# Altium integrated library Linear Technology Power Management LDO Linear Regulators.IntLib: 2339 symbols (part 130 of 131)
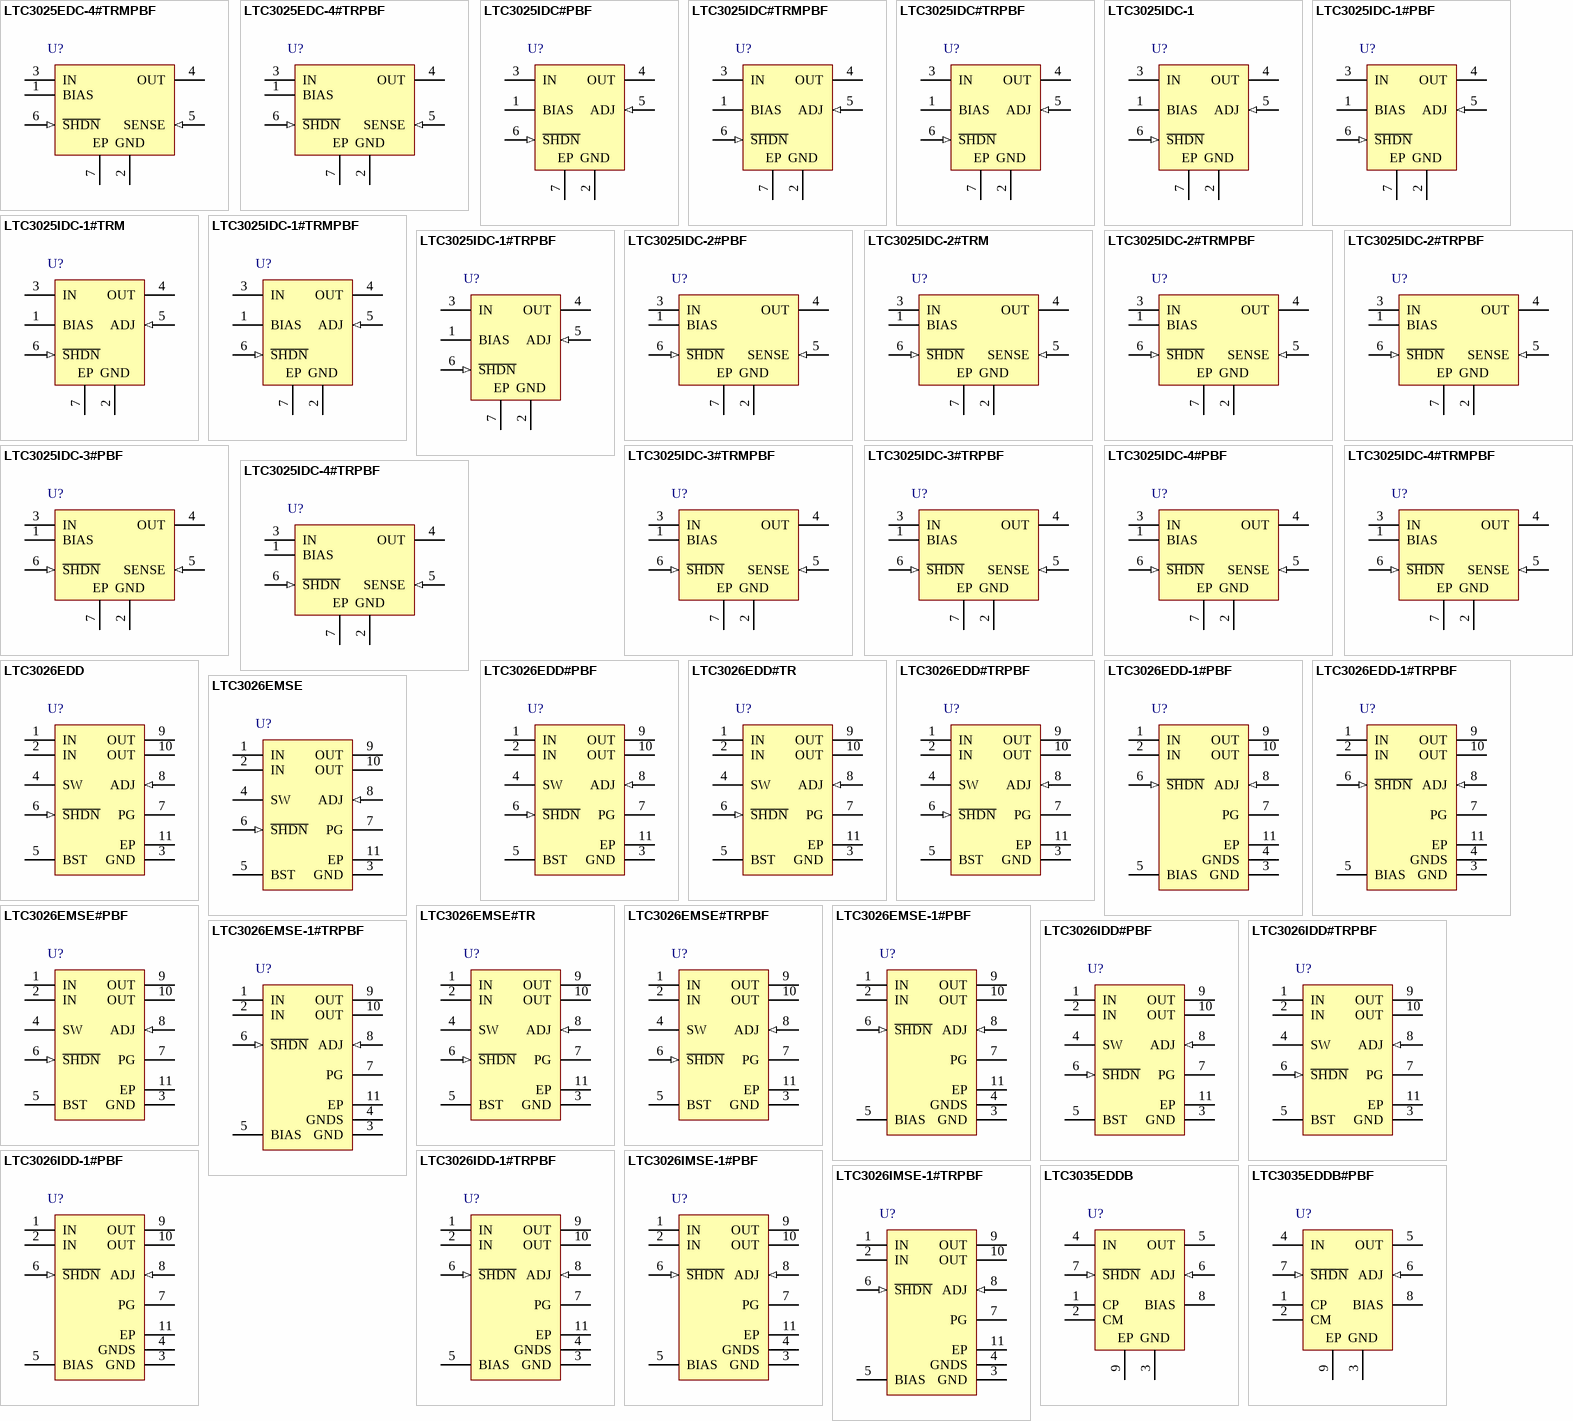
[diagram p198: symbols LTC3025EDC-4#TRMPBF to LTC3035EDDB#PBF]

## LTC3026EMSE#TRPBF
designator U?
100 mV Dropout Voltage, Internal Boost Converter (or External 5 V Supply) Provides Bias Voltage for Internal N-FET Pass Element, 1.14 to 5.5 V Vin, Adjustable Vout, 10-pin SOP (MSE-10-EDP), -40 to 125 degC, Pb-Free, Tape and Reel; Manufacturer: Linear Technology; PartNumber: LTC3026EMSE#TRPBF; Discrete Pass Element: no; Dropout Voltage(V): 0.1; Iout(mA): 1500; Isupply(mA): 0.4; Noise(uV): 110; Number of Outputs: 1; Output Voltage: Adj; PSRR(dB): 42; Shutdown Current(uA): 0.6; Vin Max(V): 5.5; Vin Min(V): 1.14; Vout Max(V): 2.6; DatasheetVersion: Rev. F; PackageVersion: Rev. I, 05/2013; PackageReference: MSE-10; PackageDescription: 10-Pin Plastic MSOP, Exposed Die Pad, Body 3 x 3 mm, Pitch 0.5 mm; Supplier 1: Digi-Key; Supplier Part Number 1: LTC3026EMSE#TRPBFTR-ND; Supplier 2: Digi-Key; Supplier Part Number 2: LTC3026EMSE#TRPBFCT-ND; Supplier 3: Digi-Key; Supplier Part Number 3: LTC3026EMSE#TRPBFDKR-ND; Supplier 4: Newark; Supplier Part Number 4: 56M7312; Packing: Tape and Reel; RoHS: TRUE; Vout Min(V): 0.4; Mounting Technology: Surface Mount; ComponentLink1Description: Manufacturer URL; ComponentLink1URL: http://www.linear.com/; ComponentLink2Description: Datasheet; ComponentLink2URL: http://cds.linear.com/docs/en/datasheet/3026ff.pdf; ComponentLink3Description: Package Specification; ComponentLink3URL: http://cds.linear.com/docs/en/packaging/05081664_I_MSE.pdf
footprint LT-MSE-10-EDP_N (SOP, 10-Leads, Body 3x3mm, Pitch 0.5mm, Thermal Pad 1.88x1.68mm, IPC Medium Density)
footprint LT-MSE-10-EDP_L (SOP, 10-Leads, Body 3x3mm, Pitch 0.5mm, Thermal Pad 1.88x1.68mm, IPC High Density)
footprint LT-MSE-10-EDP_M (SOP, 10-Leads, Body 3x3mm, Pitch 0.5mm, Thermal Pad 1.88x1.68mm, IPC Low Density)
pins: 1 IN (power) "Input Supply Voltage. Output load current is supplied directly from IN. The IN pin should be locally bypassed to ground if the LTC3026 is more than a few inches away from another source of bulk capacitance. In general, the (See Datasheet)", 2 IN (power) "Input Supply Voltage. Output load current is supplied directly from IN. The IN pin should be locally bypassed to ground if the LTC3026 is more than a few inches away from another source of bulk capacitance. In general, the (See Datasheet)", 3 GND (power) "Ground and Heat Sink. Connect the exposed pad to the PCB ground plane or large pad for optimum thermal performance.", 4 SW "Boost Switching Pin. This is the boost converter switching pin. A 4.7uH to 40uH inductor able to handle a peak current of 150mA is connected from this pin to VIN. The boost converter can be disabled by floating this pin. (See Datasheet)", 5 BST (power) "Boost Output Voltage Pin. With boost converter enabled bypass the BST pin with a >=4.7uF low ESR ceramic capacitor to GND (CBST). BST does not load VIN when in shutdown, but is diode connected to IN through the external (See Datasheet)", 6 ~{SHDN} (in) "Shutdown Input Pin, Active Low. This pin is used to put the LTC3026 into shutdown. The S\H\D\N\ pin current is typically less than 10nA. The S\H\D\N\ pin cannot be left floating and must be tied to a valid logic level (such (See Datasheet)", 7 PG (hiz) "Power Good Pin. When PG is high impedance OUT is in regulation, and low impedance when OUT is in shutdown or out of regulation.", 8 ADJ (in) "Output Adjust Pin. This is the input to the error amplifier. It has a typical bias current of 0.1nA flowing into the pin. The ADJ pin reference voltage is 0.4V referenced to ground. The output voltage range is 0.4V to 2.6V (See Datasheet)", 9 OUT (power) "Regulated Output Voltage. The OUT pins supply power to the load. A minimum output capacitance of 5uF is required to ensure stability. Larger output capacitors may be required for applications with large transient loads to (See Datasheet)", 10 OUT (power) "Regulated Output Voltage. The OUT pins supply power to the load. A minimum output capacitance of 5uF is required to ensure stability. Larger output capacitors may be required for applications with large transient loads to (See Datasheet)", 11 EP (power) "Ground and Heat Sink. Connect the exposed pad to the PCB ground plane or large pad for optimum thermal performance."

## LTC3026EMSE-1#PBF
designator U?
1.5 A Low Input Voltage VLDO Linear Regulator, Boost Converter Disabled, Require 5 V External Supply, 1.14 to 5.5 V Vin, Adjustable Vout, 10-pin SOP (MSE-10-EDP), -40 to 125 degC, Pb-Free; Manufacturer: Linear Technology; PartNumber: LTC3026EMSE-1#PBF; Discrete Pass Element: no; Dropout Voltage(V): 0.1; Iout(mA): 1500; Isupply(mA): 0.095; Noise(uV): 110; Number of Outputs: 1; Output Voltage: Adj; PSRR(dB): 42; Shutdown Current(uA): 0.6; Vin Max(V): 5.5; Vin Min(V): 1.14; Vout Max(V): 2.6; Vout Min(V): 0.4; PackageVersion: Rev. I, 05/2013; PackageReference: MSE-10; PackageDescription: 10-Pin Plastic MSOP, Exposed Die Pad, Body 3 x 3 mm, Pitch 0.5 mm; Supplier 1: Digi-Key; Supplier Part Number 1: LTC3026EMSE-1#PBF-ND; Supplier 2: Newark; Supplier Part Number 2: 27W9445; RoHS: TRUE; Mounting Technology: Surface Mount; ComponentLink1Description: Manufacturer URL; ComponentLink1URL: http://www.linear.com/; ComponentLink2Description: Datasheet; ComponentLink2URL: http://cds.linear.com/docs/en/datasheet/30261f.pdf; ComponentLink3Description: Package Specification; ComponentLink3URL: http://cds.linear.com/docs/en/packaging/05081664_I_MSE.pdf
footprint LT-MSE-10-EDP_N (SOP, 10-Leads, Body 3x3mm, Pitch 0.5mm, Thermal Pad 1.88x1.68mm, IPC Medium Density)
footprint LT-MSE-10-EDP_L (SOP, 10-Leads, Body 3x3mm, Pitch 0.5mm, Thermal Pad 1.88x1.68mm, IPC High Density)
footprint LT-MSE-10-EDP_M (SOP, 10-Leads, Body 3x3mm, Pitch 0.5mm, Thermal Pad 1.88x1.68mm, IPC Low Density)
pins: 1 IN (power) "Input Supply Voltage. Output load current is supplied directly from IN. The IN pin should be locally bypassed to ground if the LTC3026 is more than a few inches away from another source of bulk capacitance. In general, the (See Datasheet)", 2 IN (power) "Input Supply Voltage. Output load current is supplied directly from IN. The IN pin should be locally bypassed to ground if the LTC3026 is more than a few inches away from another source of bulk capacitance. In general, the (See Datasheet)", 3 GND (power) "Ground and Heat Sink. Connect the exposed pad to the PCB ground plane or large pad for optimum thermal performance.", 4 GNDS (power) "Ground Sense Pin. Tie directly to Pin 3 GND external to the part.", 5 BIAS (power) "BIAS Voltage Pin. Must be connected to an external 5V supply. A 1uF low ESR ceramic capacitor is recommended for bypassing the BIAS pin.", 6 ~{SHDN} (in) "Shutdown Input Pin, Active Low. This pin is used to put the LTC3026 into shutdown. The S\H\D\N\ pin current is typically less than 10nA. The S\H\D\N\ pin cannot be left floating and must be tied to a valid logic level (such (See Datasheet)", 7 PG (hiz) "Power Good Pin. When PG is high impedance OUT is in regulation, and low impedance when OUT is in shutdown or out of regulation.", 8 ADJ (in) "Output Adjust Pin. This is the input to the error amplifier. It has a typical bias current of 0.1nA flowing into the pin. The ADJ pin reference voltage is 0.4V referenced to ground. The output voltage range is 0.4V to 2.6V (See Datasheet)", 9 OUT (power) "Regulated Output Voltage. The OUT pins supply power to the load. A minimum output capacitance of 5uF is required to ensure stability. Larger output capacitors may be required for applications with large transient loads to (See Datasheet)", 10 OUT (power) "Regulated Output Voltage. The OUT pins supply power to the load. A minimum output capacitance of 5uF is required to ensure stability. Larger output capacitors may be required for applications with large transient loads to (See Datasheet)", 11 EP (power) "Ground and Heat Sink. Connect the exposed pad to the PCB ground plane or large pad for optimum thermal performance."

## LTC3026EMSE-1#TRPBF
designator U?
1.5 A Low Input Voltage VLDO Linear Regulator, Boost Converter Disabled, Require 5 V External Supply, 1.14 to 5.5 V Vin, Adjustable Vout, 10-pin SOP (MSE-10-EDP), -40 to 125 degC, Pb-Free, Tape and Reel; Manufacturer: Linear Technology; PartNumber: LTC3026EMSE-1#TRPBF; Discrete Pass Element: no; Dropout Voltage(V): 0.1; Iout(mA): 1500; Isupply(mA): 0.095; Noise(uV): 110; Number of Outputs: 1; Output Voltage: Adj; PSRR(dB): 42; Shutdown Current(uA): 0.6; Vin Max(V): 5.5; Vin Min(V): 1.14; Vout Max(V): 2.6; Vout Min(V): 0.4; PackageVersion: Rev. I, 05/2013; PackageReference: MSE-10; PackageDescription: 10-Pin Plastic MSOP, Exposed Die Pad, Body 3 x 3 mm, Pitch 0.5 mm; Supplier 1: Digi-Key; Supplier Part Number 1: LTC3026EMSE-1#TRPBF-ND; Supplier 2: Newark; Supplier Part Number 2: 27W9446; Packing: Tape and Reel; RoHS: TRUE; Mounting Technology: Surface Mount; ComponentLink1Description: Manufacturer URL; ComponentLink1URL: http://www.linear.com/; ComponentLink2Description: Datasheet; ComponentLink2URL: http://cds.linear.com/docs/en/datasheet/30261f.pdf; ComponentLink3Description: Package Specification; ComponentLink3URL: http://cds.linear.com/docs/en/packaging/05081664_I_MSE.pdf
footprint LT-MSE-10-EDP_N (SOP, 10-Leads, Body 3x3mm, Pitch 0.5mm, Thermal Pad 1.88x1.68mm, IPC Medium Density)
footprint LT-MSE-10-EDP_L (SOP, 10-Leads, Body 3x3mm, Pitch 0.5mm, Thermal Pad 1.88x1.68mm, IPC High Density)
footprint LT-MSE-10-EDP_M (SOP, 10-Leads, Body 3x3mm, Pitch 0.5mm, Thermal Pad 1.88x1.68mm, IPC Low Density)
pins: 1 IN (power) "Input Supply Voltage. Output load current is supplied directly from IN. The IN pin should be locally bypassed to ground if the LTC3026 is more than a few inches away from another source of bulk capacitance. In general, the (See Datasheet)", 2 IN (power) "Input Supply Voltage. Output load current is supplied directly from IN. The IN pin should be locally bypassed to ground if the LTC3026 is more than a few inches away from another source of bulk capacitance. In general, the (See Datasheet)", 3 GND (power) "Ground and Heat Sink. Connect the exposed pad to the PCB ground plane or large pad for optimum thermal performance.", 4 GNDS (power) "Ground Sense Pin. Tie directly to Pin 3 GND external to the part.", 5 BIAS (power) "BIAS Voltage Pin. Must be connected to an external 5V supply. A 1uF low ESR ceramic capacitor is recommended for bypassing the BIAS pin.", 6 ~{SHDN} (in) "Shutdown Input Pin, Active Low. This pin is used to put the LTC3026 into shutdown. The S\H\D\N\ pin current is typically less than 10nA. The S\H\D\N\ pin cannot be left floating and must be tied to a valid logic level (such (See Datasheet)", 7 PG (hiz) "Power Good Pin. When PG is high impedance OUT is in regulation, and low impedance when OUT is in shutdown or out of regulation.", 8 ADJ (in) "Output Adjust Pin. This is the input to the error amplifier. It has a typical bias current of 0.1nA flowing into the pin. The ADJ pin reference voltage is 0.4V referenced to ground. The output voltage range is 0.4V to 2.6V (See Datasheet)", 9 OUT (power) "Regulated Output Voltage. The OUT pins supply power to the load. A minimum output capacitance of 5uF is required to ensure stability. Larger output capacitors may be required for applications with large transient loads to (See Datasheet)", 10 OUT (power) "Regulated Output Voltage. The OUT pins supply power to the load. A minimum output capacitance of 5uF is required to ensure stability. Larger output capacitors may be required for applications with large transient loads to (See Datasheet)", 11 EP (power) "Ground and Heat Sink. Connect the exposed pad to the PCB ground plane or large pad for optimum thermal performance."

## LTC3026IDD#PBF
designator U?
Operates with VIN = 1.14 V, 100 mV Dropout Voltage, Internal Boost Converter (or External 5 V Supply) Provides Bias Voltage for Internal N-FET Pass Element, 1.14 to 5.5 V Vin, Adjustable Vout, 10-pin SON (DD-10), -40 to 125 degC, Pb-Free; Manufacturer: Linear Technology; PartNumber: LTC3026IDD#PBF; Discrete Pass Element: no; Dropout Voltage(V): 0.1; Iout(mA): 1500; Isupply(mA): 0.4; Noise(uV): 110; Number of Outputs: 1; Output Voltage: Adj; PSRR(dB): 42; Shutdown Current(uA): 0.6; Vin Max(V): 5.5; Vin Min(V): 1.14; Vout Max(V): 2.6; DatasheetVersion: Rev. F; PackageVersion: Rev. C, 06/2010; PackageReference: DD-10; PackageDescription: 10-Pin Plastic DFN, Body 3 x 3 mm, Pitch 0.5 mm; Supplier 1: Digi-Key; Supplier Part Number 1: LTC3026IDD#PBF-ND; Supplier 2: Farnell; Supplier Part Number 2: 2215128; Supplier 3: Newark; Supplier Part Number 3: 44W6803; RoHS: TRUE; Vout Min(V): 0.4; Mounting Technology: Surface Mount; Code_JEDEC: MO-229; ComponentLink1Description: Manufacturer URL; ComponentLink1URL: http://www.linear.com/; ComponentLink2Description: Datasheet; ComponentLink2URL: http://cds.linear.com/docs/en/datasheet/3026ff.pdf; ComponentLink3Description: Package Specification; ComponentLink3URL: http://cds.linear.com/docs/en/packaging/DFN_10_05-08-1699.pdf
footprint LT-DD-10_V (SON, 10-Leads, Body 3x3mm, Pitch 0.5mm, Thermal Pad 2.38x1.65mm)
pins: 1 IN (power) "Input Supply Voltage. Output load current is supplied directly from IN. The IN pin should be locally bypassed to ground if the LTC3026 is more than a few inches away from another source of bulk capacitance. In general, the (See Datasheet)", 2 IN (power) "Input Supply Voltage. Output load current is supplied directly from IN. The IN pin should be locally bypassed to ground if the LTC3026 is more than a few inches away from another source of bulk capacitance. In general, the (See Datasheet)", 3 GND (power) "Ground and Heat Sink. Connect the exposed pad to the PCB ground plane or large pad for optimum thermal performance.", 4 SW "Boost Switching Pin. This is the boost converter switching pin. A 4.7uH to 40uH inductor able to handle a peak current of 150mA is connected from this pin to VIN. The boost converter can be disabled by floating this pin. (See Datasheet)", 5 BST "Boost Output Voltage Pin. With boost converter enabled bypass the BST pin with a >=4.7uF low ESR ceramic capacitor to GND (CBST). BST does not load VIN when in shutdown, but is diode connected to IN through the external (See Datasheet)", 6 ~{SHDN} (in) "Shutdown Input Pin, Active Low. This pin is used to put the LTC3026 into shutdown. The S\H\D\N\ pin current is typically less than 10nA. The S\H\D\N\ pin cannot be left floating and must be tied to a valid logic level (such (See Datasheet)", 7 PG (hiz) "Power Good Pin. When PG is high impedance OUT is in regulation, and low impedance when OUT is in shutdown or out of regulation.", 8 ADJ (in) "Output Adjust Pin. This is the input to the error amplifier. It has a typical bias current of 0.1nA flowing into the pin. The ADJ pin reference voltage is 0.4V referenced to ground. The output voltage range is 0.4V to 2.6V (See Datasheet)", 9 OUT (power) "Regulated Output Voltage. The OUT pins supply power to the load. A minimum output capacitance of 5uF is required to ensure stability. Larger output capacitors may be required for applications with large transient loads to (See Datasheet)", 10 OUT (power) "Regulated Output Voltage. The OUT pins supply power to the load. A minimum output capacitance of 5uF is required to ensure stability. Larger output capacitors may be required for applications with large transient loads to (See Datasheet)", 11 EP (power) "Ground and Heat Sink. Connect the exposed pad to the PCB ground plane or large pad for optimum thermal performance."

## LTC3026IDD#TRPBF
designator U?
Operates with VIN = 1.14 V, 100 mV Dropout Voltage, Internal Boost Converter (or External 5 V Supply) Provides Bias Voltage for Internal N-FET Pass Element, 1.14 to 5.5 V Vin, Adjustable Vout, 10-pin SON (DD-10), -40 to 125 degC, Pb-Free, Tape and Reel; Manufacturer: Linear Technology; PartNumber: LTC3026IDD#TRPBF; Discrete Pass Element: no; Dropout Voltage(V): 0.1; Iout(mA): 1500; Isupply(mA): 0.4; Noise(uV): 110; Number of Outputs: 1; Output Voltage: Adj; PSRR(dB): 42; Shutdown Current(uA): 0.6; Vin Max(V): 5.5; Vin Min(V): 1.14; Vout Max(V): 2.6; DatasheetVersion: Rev. F; PackageVersion: Rev. C, 06/2010; PackageReference: DD-10; PackageDescription: 10-Pin Plastic DFN, Body 3 x 3 mm, Pitch 0.5 mm; Supplier 1: Digi-Key; Supplier Part Number 1: LTC3026IDD#TRPBF-ND; Supplier 2: Newark; Supplier Part Number 2: 44W6804; Packing: Tape and Reel; RoHS: TRUE; Vout Min(V): 0.4; Mounting Technology: Surface Mount; Code_JEDEC: MO-229; ComponentLink1Description: Manufacturer URL; ComponentLink1URL: http://www.linear.com/; ComponentLink2Description: Datasheet; ComponentLink2URL: http://cds.linear.com/docs/en/datasheet/3026ff.pdf; ComponentLink3Description: Package Specification; ComponentLink3URL: http://cds.linear.com/docs/en/packaging/DFN_10_05-08-1699.pdf
footprint LT-DD-10_V (SON, 10-Leads, Body 3x3mm, Pitch 0.5mm, Thermal Pad 2.38x1.65mm)
pins: 1 IN (power) "Input Supply Voltage. Output load current is supplied directly from IN. The IN pin should be locally bypassed to ground if the LTC3026 is more than a few inches away from another source of bulk capacitance. In general, the (See Datasheet)", 2 IN (power) "Input Supply Voltage. Output load current is supplied directly from IN. The IN pin should be locally bypassed to ground if the LTC3026 is more than a few inches away from another source of bulk capacitance. In general, the (See Datasheet)", 3 GND (power) "Ground and Heat Sink. Connect the exposed pad to the PCB ground plane or large pad for optimum thermal performance.", 4 SW "Boost Switching Pin. This is the boost converter switching pin. A 4.7uH to 40uH inductor able to handle a peak current of 150mA is connected from this pin to VIN. The boost converter can be disabled by floating this pin. (See Datasheet)", 5 BST "Boost Output Voltage Pin. With boost converter enabled bypass the BST pin with a >=4.7uF low ESR ceramic capacitor to GND (CBST). BST does not load VIN when in shutdown, but is diode connected to IN through the external (See Datasheet)", 6 ~{SHDN} (in) "Shutdown Input Pin, Active Low. This pin is used to put the LTC3026 into shutdown. The S\H\D\N\ pin current is typically less than 10nA. The S\H\D\N\ pin cannot be left floating and must be tied to a valid logic level (such (See Datasheet)", 7 PG (hiz) "Power Good Pin. When PG is high impedance OUT is in regulation, and low impedance when OUT is in shutdown or out of regulation.", 8 ADJ (in) "Output Adjust Pin. This is the input to the error amplifier. It has a typical bias current of 0.1nA flowing into the pin. The ADJ pin reference voltage is 0.4V referenced to ground. The output voltage range is 0.4V to 2.6V (See Datasheet)", 9 OUT (power) "Regulated Output Voltage. The OUT pins supply power to the load. A minimum output capacitance of 5uF is required to ensure stability. Larger output capacitors may be required for applications with large transient loads to (See Datasheet)", 10 OUT (power) "Regulated Output Voltage. The OUT pins supply power to the load. A minimum output capacitance of 5uF is required to ensure stability. Larger output capacitors may be required for applications with large transient loads to (See Datasheet)", 11 EP (power) "Ground and Heat Sink. Connect the exposed pad to the PCB ground plane or large pad for optimum thermal performance."

## LTC3026IDD-1#PBF
designator U?
1.5 A Low Input Voltage VLDO Linear Regulator, Boost Converter Disabled, Require 5 V External Supply, 1.14 to 5.5 V Vin, Adjustable Vout, 10-pin SON (DD-10), -40 to 125 degC, Pb-Free; Manufacturer: Linear Technology; PartNumber: LTC3026IDD-1#PBF; Discrete Pass Element: no; Dropout Voltage(V): 0.1; Iout(mA): 1500; Isupply(mA): 0.095; Noise(uV): 110; Number of Outputs: 1; Output Voltage: Adj; PSRR(dB): 42; Shutdown Current(uA): 0.6; Vin Max(V): 5.5; Vin Min(V): 1.14; Vout Max(V): 2.6; Vout Min(V): 0.4; PackageVersion: Rev. C, 06/2010; PackageReference: DD-10; PackageDescription: 10-Pin Plastic DFN, Body 3 x 3 mm, Pitch 0.5 mm; Supplier 1: Digi-Key; Supplier Part Number 1: LTC3026IDD-1#PBF-ND; Supplier 2: Newark; Supplier Part Number 2: 27W9447; RoHS: TRUE; Mounting Technology: Surface Mount; Code_JEDEC: MO-229; ComponentLink1Description: Manufacturer URL; ComponentLink1URL: http://www.linear.com/; ComponentLink2Description: Datasheet; ComponentLink2URL: http://cds.linear.com/docs/en/datasheet/30261f.pdf; ComponentLink3Description: Package Specification; ComponentLink3URL: http://cds.linear.com/docs/en/packaging/DFN_10_05-08-1699.pdf
footprint LT-DD-10_V (SON, 10-Leads, Body 3x3mm, Pitch 0.5mm, Thermal Pad 2.38x1.65mm)
pins: 1 IN (power) "Input Supply Voltage. Output load current is supplied directly from IN. The IN pin should be locally bypassed to ground if the LTC3026 is more than a few inches away from another source of bulk capacitance. In general, the (See Datasheet)", 2 IN (power) "Input Supply Voltage. Output load current is supplied directly from IN. The IN pin should be locally bypassed to ground if the LTC3026 is more than a few inches away from another source of bulk capacitance. In general, the (See Datasheet)", 3 GND (power) "Ground and Heat Sink. Connect the exposed pad to the PCB ground plane or large pad for optimum thermal performance.", 4 GNDS (power) "Ground Sense Pin. Tie directly to Pin 3 GND external to the part.", 5 BIAS (power) "BIAS Voltage Pin. Must be connected to an external 5V supply. A 1uF low ESR ceramic capacitor is recommended for bypassing the BIAS pin.", 6 ~{SHDN} (in) "Shutdown Input Pin, Active Low. This pin is used to put the LTC3026 into shutdown. The S\H\D\N\ pin current is typically less than 10nA. The S\H\D\N\ pin cannot be left floating and must be tied to a valid logic level (such (See Datasheet)", 7 PG (hiz) "Power Good Pin. When PG is high impedance OUT is in regulation, and low impedance when OUT is in shutdown or out of regulation.", 8 ADJ (in) "Output Adjust Pin. This is the input to the error amplifier. It has a typical bias current of 0.1nA flowing into the pin. The ADJ pin reference voltage is 0.4V referenced to ground. The output voltage range is 0.4V to 2.6V (See Datasheet)", 9 OUT (power) "Regulated Output Voltage. The OUT pins supply power to the load. A minimum output capacitance of 5uF is required to ensure stability. Larger output capacitors may be required for applications with large transient loads to (See Datasheet)", 10 OUT (power) "Regulated Output Voltage. The OUT pins supply power to the load. A minimum output capacitance of 5uF is required to ensure stability. Larger output capacitors may be required for applications with large transient loads to (See Datasheet)", 11 EP (power) "Ground and Heat Sink. Connect the exposed pad to the PCB ground plane or large pad for optimum thermal performance."

## LTC3026IDD-1#TRPBF
designator U?
1.5 A Low Input Voltage VLDO Linear Regulator, Boost Converter Disabled, Require 5 V External Supply, 1.14 to 5.5 V Vin, Adjustable Vout, 10-pin SON (DD-10), -40 to 125 degC, Pb-Free, Tape and Reel; Manufacturer: Linear Technology; PartNumber: LTC3026IDD-1#TRPBF; Discrete Pass Element: no; Dropout Voltage(V): 0.1; Iout(mA): 1500; Isupply(mA): 0.095; Noise(uV): 110; Number of Outputs: 1; Output Voltage: Adj; PSRR(dB): 42; Shutdown Current(uA): 0.6; Vin Max(V): 5.5; Vin Min(V): 1.14; Vout Max(V): 2.6; Vout Min(V): 0.4; PackageVersion: Rev. C, 06/2010; PackageReference: DD-10; PackageDescription: 10-Pin Plastic DFN, Body 3 x 3 mm, Pitch 0.5 mm; Supplier 1: Digi-Key; Supplier Part Number 1: LTC3026IDD-1#TRPBF-ND; Supplier 2: Newark; Supplier Part Number 2: 27W9448; Packing: Tape and Reel; RoHS: TRUE; Mounting Technology: Surface Mount; Code_JEDEC: MO-229; ComponentLink1Description: Manufacturer URL; ComponentLink1URL: http://www.linear.com/; ComponentLink2Description: Datasheet; ComponentLink2URL: http://cds.linear.com/docs/en/datasheet/30261f.pdf; ComponentLink3Description: Package Specification; ComponentLink3URL: http://cds.linear.com/docs/en/packaging/DFN_10_05-08-1699.pdf
footprint LT-DD-10_V (SON, 10-Leads, Body 3x3mm, Pitch 0.5mm, Thermal Pad 2.38x1.65mm)
pins: 1 IN (power) "Input Supply Voltage. Output load current is supplied directly from IN. The IN pin should be locally bypassed to ground if the LTC3026 is more than a few inches away from another source of bulk capacitance. In general, the (See Datasheet)", 2 IN (power) "Input Supply Voltage. Output load current is supplied directly from IN. The IN pin should be locally bypassed to ground if the LTC3026 is more than a few inches away from another source of bulk capacitance. In general, the (See Datasheet)", 3 GND (power) "Ground and Heat Sink. Connect the exposed pad to the PCB ground plane or large pad for optimum thermal performance.", 4 GNDS (power) "Ground Sense Pin. Tie directly to Pin 3 GND external to the part.", 5 BIAS (power) "BIAS Voltage Pin. Must be connected to an external 5V supply. A 1uF low ESR ceramic capacitor is recommended for bypassing the BIAS pin.", 6 ~{SHDN} (in) "Shutdown Input Pin, Active Low. This pin is used to put the LTC3026 into shutdown. The S\H\D\N\ pin current is typically less than 10nA. The S\H\D\N\ pin cannot be left floating and must be tied to a valid logic level (such (See Datasheet)", 7 PG (hiz) "Power Good Pin. When PG is high impedance OUT is in regulation, and low impedance when OUT is in shutdown or out of regulation.", 8 ADJ (in) "Output Adjust Pin. This is the input to the error amplifier. It has a typical bias current of 0.1nA flowing into the pin. The ADJ pin reference voltage is 0.4V referenced to ground. The output voltage range is 0.4V to 2.6V (See Datasheet)", 9 OUT (power) "Regulated Output Voltage. The OUT pins supply power to the load. A minimum output capacitance of 5uF is required to ensure stability. Larger output capacitors may be required for applications with large transient loads to (See Datasheet)", 10 OUT (power) "Regulated Output Voltage. The OUT pins supply power to the load. A minimum output capacitance of 5uF is required to ensure stability. Larger output capacitors may be required for applications with large transient loads to (See Datasheet)", 11 EP (power) "Ground and Heat Sink. Connect the exposed pad to the PCB ground plane or large pad for optimum thermal performance."

## LTC3026IMSE-1#PBF
designator U?
1.5 A Low Input Voltage VLDO Linear Regulator, Boost Converter Disabled, Require 5 V External Supply, 1.14 to 5.5 V Vin, Adjustable Vout, 10-pin SOP (MSE-10-EDP), -40 to 125 degC, Pb-Free; Manufacturer: Linear Technology; PartNumber: LTC3026IMSE-1#PBF; Discrete Pass Element: no; Dropout Voltage(V): 0.1; Iout(mA): 1500; Isupply(mA): 0.095; Noise(uV): 110; Number of Outputs: 1; Output Voltage: Adj; PSRR(dB): 42; Shutdown Current(uA): 0.6; Vin Max(V): 5.5; Vin Min(V): 1.14; Vout Max(V): 2.6; Vout Min(V): 0.4; PackageVersion: Rev. I, 05/2013; PackageReference: MSE-10; PackageDescription: 10-Pin Plastic MSOP, Exposed Die Pad, Body 3 x 3 mm, Pitch 0.5 mm; Supplier 1: Digi-Key; Supplier Part Number 1: LTC3026IMSE-1#PBF-ND; Supplier 2: Newark; Supplier Part Number 2: 27W9449; RoHS: TRUE; Mounting Technology: Surface Mount; ComponentLink1Description: Manufacturer URL; ComponentLink1URL: http://www.linear.com/; ComponentLink2Description: Datasheet; ComponentLink2URL: http://cds.linear.com/docs/en/datasheet/30261f.pdf; ComponentLink3Description: Package Specification; ComponentLink3URL: http://cds.linear.com/docs/en/packaging/05081664_I_MSE.pdf
footprint LT-MSE-10-EDP_N (SOP, 10-Leads, Body 3x3mm, Pitch 0.5mm, Thermal Pad 1.88x1.68mm, IPC Medium Density)
footprint LT-MSE-10-EDP_L (SOP, 10-Leads, Body 3x3mm, Pitch 0.5mm, Thermal Pad 1.88x1.68mm, IPC High Density)
footprint LT-MSE-10-EDP_M (SOP, 10-Leads, Body 3x3mm, Pitch 0.5mm, Thermal Pad 1.88x1.68mm, IPC Low Density)
pins: 1 IN (power) "Input Supply Voltage. Output load current is supplied directly from IN. The IN pin should be locally bypassed to ground if the LTC3026 is more than a few inches away from another source of bulk capacitance. In general, the (See Datasheet)", 2 IN (power) "Input Supply Voltage. Output load current is supplied directly from IN. The IN pin should be locally bypassed to ground if the LTC3026 is more than a few inches away from another source of bulk capacitance. In general, the (See Datasheet)", 3 GND (power) "Ground and Heat Sink. Connect the exposed pad to the PCB ground plane or large pad for optimum thermal performance.", 4 GNDS (power) "Ground Sense Pin. Tie directly to Pin 3 GND external to the part.", 5 BIAS (power) "BIAS Voltage Pin. Must be connected to an external 5V supply. A 1uF low ESR ceramic capacitor is recommended for bypassing the BIAS pin.", 6 ~{SHDN} (in) "Shutdown Input Pin, Active Low. This pin is used to put the LTC3026 into shutdown. The S\H\D\N\ pin current is typically less than 10nA. The S\H\D\N\ pin cannot be left floating and must be tied to a valid logic level (such (See Datasheet)", 7 PG (hiz) "Power Good Pin. When PG is high impedance OUT is in regulation, and low impedance when OUT is in shutdown or out of regulation.", 8 ADJ (in) "Output Adjust Pin. This is the input to the error amplifier. It has a typical bias current of 0.1nA flowing into the pin. The ADJ pin reference voltage is 0.4V referenced to ground. The output voltage range is 0.4V to 2.6V (See Datasheet)", 9 OUT (power) "Regulated Output Voltage. The OUT pins supply power to the load. A minimum output capacitance of 5uF is required to ensure stability. Larger output capacitors may be required for applications with large transient loads to (See Datasheet)", 10 OUT (power) "Regulated Output Voltage. The OUT pins supply power to the load. A minimum output capacitance of 5uF is required to ensure stability. Larger output capacitors may be required for applications with large transient loads to (See Datasheet)", 11 EP (power) "Ground and Heat Sink. Connect the exposed pad to the PCB ground plane or large pad for optimum thermal performance."

## LTC3026IMSE-1#TRPBF
designator U?
1.5 A Low Input Voltage VLDO Linear Regulator, Boost Converter Disabled, Require 5 V External Supply, 1.14 to 5.5 V Vin, Adjustable Vout, 10-pin SOP (MSE-10-EDP), -40 to 125 degC, Pb-Free, Tape and Reel; Manufacturer: Linear Technology; PartNumber: LTC3026IMSE-1#TRPBF; Discrete Pass Element: no; Dropout Voltage(V): 0.1; Iout(mA): 1500; Isupply(mA): 0.095; Noise(uV): 110; Number of Outputs: 1; Output Voltage: Adj; PSRR(dB): 42; Shutdown Current(uA): 0.6; Vin Max(V): 5.5; Vin Min(V): 1.14; Vout Max(V): 2.6; Vout Min(V): 0.4; PackageVersion: Rev. I, 05/2013; PackageReference: MSE-10; PackageDescription: 10-Pin Plastic MSOP, Exposed Die Pad, Body 3 x 3 mm, Pitch 0.5 mm; Supplier 1: Digi-Key; Supplier Part Number 1: LTC3026IMSE-1#TRPBF-ND; Supplier 2: Newark; Supplier Part Number 2: 27W9450; Packing: Tape and Reel; RoHS: TRUE; Mounting Technology: Surface Mount; ComponentLink1Description: Manufacturer URL; ComponentLink1URL: http://www.linear.com/; ComponentLink2Description: Datasheet; ComponentLink2URL: http://cds.linear.com/docs/en/datasheet/30261f.pdf; ComponentLink3Description: Package Specification; ComponentLink3URL: http://cds.linear.com/docs/en/packaging/05081664_I_MSE.pdf
footprint LT-MSE-10-EDP_N (SOP, 10-Leads, Body 3x3mm, Pitch 0.5mm, Thermal Pad 1.88x1.68mm, IPC Medium Density)
footprint LT-MSE-10-EDP_L (SOP, 10-Leads, Body 3x3mm, Pitch 0.5mm, Thermal Pad 1.88x1.68mm, IPC High Density)
footprint LT-MSE-10-EDP_M (SOP, 10-Leads, Body 3x3mm, Pitch 0.5mm, Thermal Pad 1.88x1.68mm, IPC Low Density)
pins: 1 IN (power) "Input Supply Voltage. Output load current is supplied directly from IN. The IN pin should be locally bypassed to ground if the LTC3026 is more than a few inches away from another source of bulk capacitance. In general, the (See Datasheet)", 2 IN (power) "Input Supply Voltage. Output load current is supplied directly from IN. The IN pin should be locally bypassed to ground if the LTC3026 is more than a few inches away from another source of bulk capacitance. In general, the (See Datasheet)", 3 GND (power) "Ground and Heat Sink. Connect the exposed pad to the PCB ground plane or large pad for optimum thermal performance.", 4 GNDS (power) "Ground Sense Pin. Tie directly to Pin 3 GND external to the part.", 5 BIAS (power) "BIAS Voltage Pin. Must be connected to an external 5V supply. A 1uF low ESR ceramic capacitor is recommended for bypassing the BIAS pin.", 6 ~{SHDN} (in) "Shutdown Input Pin, Active Low. This pin is used to put the LTC3026 into shutdown. The S\H\D\N\ pin current is typically less than 10nA. The S\H\D\N\ pin cannot be left floating and must be tied to a valid logic level (such (See Datasheet)", 7 PG (hiz) "Power Good Pin. When PG is high impedance OUT is in regulation, and low impedance when OUT is in shutdown or out of regulation.", 8 ADJ (in) "Output Adjust Pin. This is the input to the error amplifier. It has a typical bias current of 0.1nA flowing into the pin. The ADJ pin reference voltage is 0.4V referenced to ground. The output voltage range is 0.4V to 2.6V (See Datasheet)", 9 OUT (power) "Regulated Output Voltage. The OUT pins supply power to the load. A minimum output capacitance of 5uF is required to ensure stability. Larger output capacitors may be required for applications with large transient loads to (See Datasheet)", 10 OUT (power) "Regulated Output Voltage. The OUT pins supply power to the load. A minimum output capacitance of 5uF is required to ensure stability. Larger output capacitors may be required for applications with large transient loads to (See Datasheet)", 11 EP (power) "Ground and Heat Sink. Connect the exposed pad to the PCB ground plane or large pad for optimum thermal performance."

## LTC3035EDDB
designator U?
300 mA VLDO Linear Regulator with Charge Pump Bias Generator, 1.7 to 5.5 V Vin, Adjustable Vout, 8-pin SON (DDB-8), -40 to 125 degC; Manufacturer: Linear Technology; PartNumber: LTC3035EDDB; Discrete Pass Element: no; Dropout Voltage(V): 0.045; Iout(mA): 300; Isupply(mA): 0.1; Noise(uV): 150; Number of Outputs: 1; Output Voltage: Adj; Vin Max(V): 5.5; Vin Min(V): 1.7; Vout Max(V): 3.6; Vout Min(V): 0.4; PackageVersion: Rev. B, 06/2010; PackageReference: DDB-8; PackageDescription: 8-Pin Plastic DFN, Body 3 x 2 mm, Pitch 0.5 mm; RoHS: FALSE; Shutdown Current(uA): 1; Mounting Technology: Surface Mount; Code_JEDEC: MO-229; ComponentLink1Description: Manufacturer URL; ComponentLink1URL: http://www.linear.com/; ComponentLink2Description: Datasheet; ComponentLink2URL: http://cds.linear.com/docs/en/datasheet/3035f.pdf; ComponentLink3Description: Package Specification; ComponentLink3URL: http://cds.linear.com/docs/en/packaging/DFN_8_05-08-1702.pdf
footprint LT-DDB-8_V (SON, 8-Leads, Body 3x2mm, Pitch 0.5mm, Thermal Pad 2.2x0.61mm)
pins: 1 CP "Flying Capacitor Positive Terminal.", 2 CM "Flying Capacitor Negative Terminal.", 3 GND (power) "Ground. Connect to a ground plane.", 4 IN (power) "Input Supply Voltage. The output load current is supplied directly from IN. The IN pin should be locally bypassed to ground if the LTC3035 is more than a few inches away from another source of bulk capacitance. In general, (See Datasheet)", 5 OUT (power) "Regulated Output Voltage. The OUT pin supplies power to the load. A minimum ceramic output capacitor of at least 1uF is required to ensure stability. Larger output capacitors may be required for applications with large (See Datasheet)", 6 ADJ (in) "Adjust Input Pin. This is the input to the error amplifier. The ADJ pin reference voltage is 0.4V referenced to ground. The output voltage range is 0.4V to 3.6V and is set by connecting ADJ to a resistor divider from OUT to (See Datasheet)", 7 ~{SHDN} (in) "Shutdown Input, Active Low. This pin is used to put the LTC3035 into shutdown. The S\H\D\N\ pin current is typically less than 10nA. The S\H\D\N\ pin cannot be left floating and must be tied to a valid logic level if not (See Datasheet)", 8 BIAS (power) "BIAS Output Voltage Pin. BIAS is the output of the charge pump and provides the high side supply for the LTC3035 LDO circuitry. This pin should be locally bypassed to ground by a 1uF or greater capacitor as close as possible (See Datasheet)", 9 EP (power) "Ground and Heat Sink. Must be soldered to PCB ground plane or large pad for optimal thermal performance."

## LTC3035EDDB#PBF
designator U?
300 mA VLDO Linear Regulator with Charge Pump Bias Generator, 1.7 to 5.5 V Vin, Adjustable Vout, 8-pin SON (DDB-8), -40 to 125 degC, Pb-Free; Manufacturer: Linear Technology; PartNumber: LTC3035EDDB#PBF; Discrete Pass Element: no; Dropout Voltage(V): 0.045; Iout(mA): 300; Isupply(mA): 0.1; Noise(uV): 150; Number of Outputs: 1; Output Voltage: Adj; Vin Max(V): 5.5; Vin Min(V): 1.7; Vout Max(V): 3.6; Vout Min(V): 0.4; PackageVersion: Rev. B, 06/2010; PackageReference: DDB-8; PackageDescription: 8-Pin Plastic DFN, Body 3 x 2 mm, Pitch 0.5 mm; Supplier 1: Farnell; Supplier Part Number 1: 1556263; Supplier 2: Newark; Supplier Part Number 2: 96M1088; RoHS: TRUE; Shutdown Current(uA): 1; Mounting Technology: Surface Mount; Code_JEDEC: MO-229; ComponentLink1Description: Manufacturer URL; ComponentLink1URL: http://www.linear.com/; ComponentLink2Description: Datasheet; ComponentLink2URL: http://cds.linear.com/docs/en/datasheet/3035f.pdf; ComponentLink3Description: Package Specification; ComponentLink3URL: http://cds.linear.com/docs/en/packaging/DFN_8_05-08-1702.pdf
footprint LT-DDB-8_V (SON, 8-Leads, Body 3x2mm, Pitch 0.5mm, Thermal Pad 2.2x0.61mm)
pins: 1 CP "Flying Capacitor Positive Terminal.", 2 CM "Flying Capacitor Negative Terminal.", 3 GND (power) "Ground. Connect to a ground plane.", 4 IN (power) "Input Supply Voltage. The output load current is supplied directly from IN. The IN pin should be locally bypassed to ground if the LTC3035 is more than a few inches away from another source of bulk capacitance. In general, (See Datasheet)", 5 OUT (power) "Regulated Output Voltage. The OUT pin supplies power to the load. A minimum ceramic output capacitor of at least 1uF is required to ensure stability. Larger output capacitors may be required for applications with large (See Datasheet)", 6 ADJ (in) "Adjust Input Pin. This is the input to the error amplifier. The ADJ pin reference voltage is 0.4V referenced to ground. The output voltage range is 0.4V to 3.6V and is set by connecting ADJ to a resistor divider from OUT to (See Datasheet)", 7 ~{SHDN} (in) "Shutdown Input, Active Low. This pin is used to put the LTC3035 into shutdown. The S\H\D\N\ pin current is typically less than 10nA. The S\H\D\N\ pin cannot be left floating and must be tied to a valid logic level if not (See Datasheet)", 8 BIAS (power) "BIAS Output Voltage Pin. BIAS is the output of the charge pump and provides the high side supply for the LTC3035 LDO circuitry. This pin should be locally bypassed to ground by a 1uF or greater capacitor as close as possible (See Datasheet)", 9 EP (power) "Ground and Heat Sink. Must be soldered to PCB ground plane or large pad for optimal thermal performance."

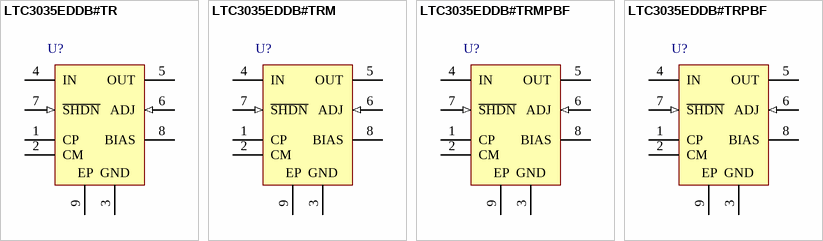
[diagram p69: symbols LTC3035EDDB#TR to LTC3035EDDB#TRPBF]

## LTC3035EDDB#TR
designator U?
300 mA VLDO Linear Regulator with Charge Pump Bias Generator, 1.7 to 5.5 V Vin, Adjustable Vout, 8-pin SON (DDB-8), -40 to 125 degC, Tape and Reel; Manufacturer: Linear Technology; PartNumber: LTC3035EDDB#TR; Discrete Pass Element: no; Dropout Voltage(V): 0.045; Iout(mA): 300; Isupply(mA): 0.1; Noise(uV): 150; Number of Outputs: 1; Output Voltage: Adj; Vin Max(V): 5.5; Vin Min(V): 1.7; Vout Max(V): 3.6; Vout Min(V): 0.4; PackageVersion: Rev. B, 06/2010; PackageReference: DDB-8; PackageDescription: 8-Pin Plastic DFN, Body 3 x 2 mm, Pitch 0.5 mm; Packing: Tape and Reel; RoHS: FALSE; Shutdown Current(uA): 1; Mounting Technology: Surface Mount; Code_JEDEC: MO-229; ComponentLink1Description: Manufacturer URL; ComponentLink1URL: http://www.linear.com/; ComponentLink2Description: Datasheet; ComponentLink2URL: http://cds.linear.com/docs/en/datasheet/3035f.pdf; ComponentLink3Description: Package Specification; ComponentLink3URL: http://cds.linear.com/docs/en/packaging/DFN_8_05-08-1702.pdf
footprint LT-DDB-8_V (SON, 8-Leads, Body 3x2mm, Pitch 0.5mm, Thermal Pad 2.2x0.61mm)
pins: 1 CP "Flying Capacitor Positive Terminal.", 2 CM "Flying Capacitor Negative Terminal.", 3 GND (power) "Ground. Connect to a ground plane.", 4 IN (power) "Input Supply Voltage. The output load current is supplied directly from IN. The IN pin should be locally bypassed to ground if the LTC3035 is more than a few inches away from another source of bulk capacitance. In general, (See Datasheet)", 5 OUT (power) "Regulated Output Voltage. The OUT pin supplies power to the load. A minimum ceramic output capacitor of at least 1uF is required to ensure stability. Larger output capacitors may be required for applications with large (See Datasheet)", 6 ADJ (in) "Adjust Input Pin. This is the input to the error amplifier. The ADJ pin reference voltage is 0.4V referenced to ground. The output voltage range is 0.4V to 3.6V and is set by connecting ADJ to a resistor divider from OUT to (See Datasheet)", 7 ~{SHDN} (in) "Shutdown Input, Active Low. This pin is used to put the LTC3035 into shutdown. The S\H\D\N\ pin current is typically less than 10nA. The S\H\D\N\ pin cannot be left floating and must be tied to a valid logic level if not (See Datasheet)", 8 BIAS (power) "BIAS Output Voltage Pin. BIAS is the output of the charge pump and provides the high side supply for the LTC3035 LDO circuitry. This pin should be locally bypassed to ground by a 1uF or greater capacitor as close as possible (See Datasheet)", 9 EP (power) "Ground and Heat Sink. Must be soldered to PCB ground plane or large pad for optimal thermal performance."

## LTC3035EDDB#TRM
designator U?
300 mA VLDO Linear Regulator with Charge Pump Bias Generator, 1.7 to 5.5 V Vin, Adjustable Vout, 8-pin SON (DDB-8), -40 to 125 degC, Mini Tape and Reel; Manufacturer: Linear Technology; PartNumber: LTC3035EDDB#TRM; Discrete Pass Element: no; Dropout Voltage(V): 0.045; Iout(mA): 300; Isupply(mA): 0.1; Noise(uV): 150; Number of Outputs: 1; Output Voltage: Adj; Vin Max(V): 5.5; Vin Min(V): 1.7; Vout Max(V): 3.6; Vout Min(V): 0.4; PackageVersion: Rev. B, 06/2010; PackageReference: DDB-8; PackageDescription: 8-Pin Plastic DFN, Body 3 x 2 mm, Pitch 0.5 mm; Packing: Mini Tape and Reel; RoHS: FALSE; Shutdown Current(uA): 1; Mounting Technology: Surface Mount; Code_JEDEC: MO-229; ComponentLink1Description: Manufacturer URL; ComponentLink1URL: http://www.linear.com/; ComponentLink2Description: Datasheet; ComponentLink2URL: http://cds.linear.com/docs/en/datasheet/3035f.pdf; ComponentLink3Description: Package Specification; ComponentLink3URL: http://cds.linear.com/docs/en/packaging/DFN_8_05-08-1702.pdf
footprint LT-DDB-8_V (SON, 8-Leads, Body 3x2mm, Pitch 0.5mm, Thermal Pad 2.2x0.61mm)
pins: 1 CP "Flying Capacitor Positive Terminal.", 2 CM "Flying Capacitor Negative Terminal.", 3 GND (power) "Ground. Connect to a ground plane.", 4 IN (power) "Input Supply Voltage. The output load current is supplied directly from IN. The IN pin should be locally bypassed to ground if the LTC3035 is more than a few inches away from another source of bulk capacitance. In general, (See Datasheet)", 5 OUT (power) "Regulated Output Voltage. The OUT pin supplies power to the load. A minimum ceramic output capacitor of at least 1uF is required to ensure stability. Larger output capacitors may be required for applications with large (See Datasheet)", 6 ADJ (in) "Adjust Input Pin. This is the input to the error amplifier. The ADJ pin reference voltage is 0.4V referenced to ground. The output voltage range is 0.4V to 3.6V and is set by connecting ADJ to a resistor divider from OUT to (See Datasheet)", 7 ~{SHDN} (in) "Shutdown Input, Active Low. This pin is used to put the LTC3035 into shutdown. The S\H\D\N\ pin current is typically less than 10nA. The S\H\D\N\ pin cannot be left floating and must be tied to a valid logic level if not (See Datasheet)", 8 BIAS (power) "BIAS Output Voltage Pin. BIAS is the output of the charge pump and provides the high side supply for the LTC3035 LDO circuitry. This pin should be locally bypassed to ground by a 1uF or greater capacitor as close as possible (See Datasheet)", 9 EP (power) "Ground and Heat Sink. Must be soldered to PCB ground plane or large pad for optimal thermal performance."

## LTC3035EDDB#TRMPBF
designator U?
300 mA VLDO Linear Regulator with Charge Pump Bias Generator, 1.7 to 5.5 V Vin, Adjustable Vout, 8-pin SON (DDB-8), -40 to 125 degC, Pb-Free, Mini Tape and Reel; Manufacturer: Linear Technology; PartNumber: LTC3035EDDB#TRMPBF; Discrete Pass Element: no; Dropout Voltage(V): 0.045; Iout(mA): 300; Isupply(mA): 0.1; Noise(uV): 150; Number of Outputs: 1; Output Voltage: Adj; Vin Max(V): 5.5; Vin Min(V): 1.7; Vout Max(V): 3.6; Vout Min(V): 0.4; PackageVersion: Rev. B, 06/2010; PackageReference: DDB-8; PackageDescription: 8-Pin Plastic DFN, Body 3 x 2 mm, Pitch 0.5 mm; Supplier 1: Digi-Key; Supplier Part Number 1: LTC3035EDDB#TRMPBFTR-ND; Supplier 2: Digi-Key; Supplier Part Number 2: LTC3035EDDB#TRMPBFCT-ND; Supplier 3: Digi-Key; Supplier Part Number 3: LTC3035EDDB#TRMPBFDKR-ND; Supplier 4: Newark; Supplier Part Number 4: 56M7315; Packing: Mini Tape and Reel; RoHS: TRUE; Shutdown Current(uA): 1; Mounting Technology: Surface Mount; Code_JEDEC: MO-229; ComponentLink1Description: Manufacturer URL; ComponentLink1URL: http://www.linear.com/; ComponentLink2Description: Datasheet; ComponentLink2URL: http://cds.linear.com/docs/en/datasheet/3035f.pdf; ComponentLink3Description: Package Specification; ComponentLink3URL: http://cds.linear.com/docs/en/packaging/DFN_8_05-08-1702.pdf
footprint LT-DDB-8_V (SON, 8-Leads, Body 3x2mm, Pitch 0.5mm, Thermal Pad 2.2x0.61mm)
pins: 1 CP "Flying Capacitor Positive Terminal.", 2 CM "Flying Capacitor Negative Terminal.", 3 GND (power) "Ground. Connect to a ground plane.", 4 IN (power) "Input Supply Voltage. The output load current is supplied directly from IN. The IN pin should be locally bypassed to ground if the LTC3035 is more than a few inches away from another source of bulk capacitance. In general, (See Datasheet)", 5 OUT (power) "Regulated Output Voltage. The OUT pin supplies power to the load. A minimum ceramic output capacitor of at least 1uF is required to ensure stability. Larger output capacitors may be required for applications with large (See Datasheet)", 6 ADJ (in) "Adjust Input Pin. This is the input to the error amplifier. The ADJ pin reference voltage is 0.4V referenced to ground. The output voltage range is 0.4V to 3.6V and is set by connecting ADJ to a resistor divider from OUT to (See Datasheet)", 7 ~{SHDN} (in) "Shutdown Input, Active Low. This pin is used to put the LTC3035 into shutdown. The S\H\D\N\ pin current is typically less than 10nA. The S\H\D\N\ pin cannot be left floating and must be tied to a valid logic level if not (See Datasheet)", 8 BIAS (power) "BIAS Output Voltage Pin. BIAS is the output of the charge pump and provides the high side supply for the LTC3035 LDO circuitry. This pin should be locally bypassed to ground by a 1uF or greater capacitor as close as possible (See Datasheet)", 9 EP (power) "Ground and Heat Sink. Must be soldered to PCB ground plane or large pad for optimal thermal performance."